# EAGLE library part MM74HC688N (library Fairchild_By_element14_Batch_1)
8-Bit Magnitude Comparator
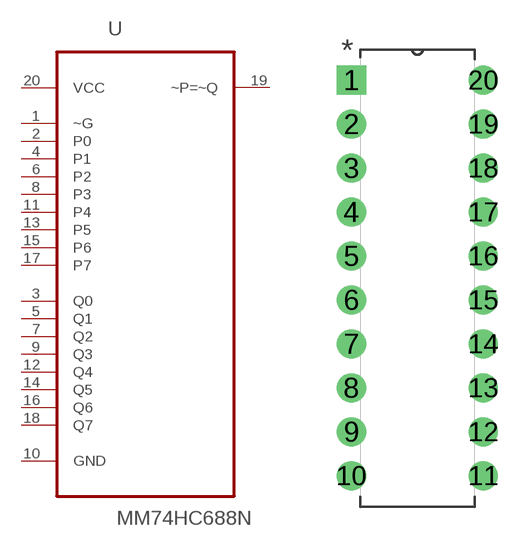
[diagram p304: symbol with the pads of DIP254P762X508-20; footprint DIP254P762X508-20]

Designator prefix U

## MM74HC688N (MPN: MM74HC688N; OC_FARNELL: 1013943; OC_NEWARK: -; PACKAGE: PDIP-20; SUPPLIER: FAIRCHILD SEMICONDUCTOR)  [DIP254P762X508-20]
1  ~G  in
2  P0  in
3  Q0  in
4  P1  in
5  Q1  in
6  P2  in
7  Q2  in
8  P3  in
9  Q3  in
10  GND  pas
11  P4  in
12  Q4  in
13  P5  in
14  Q5  in
15  P6  in
16  Q6  in
17  P7  in
18  Q7  in
19  ~P=~Q  out
20  VCC  pwr

## Footprint DIP254P762X508-20 (pad centres in mm)
drill 1.118 square: 1 -7.62,22.86
drill 1.118: 2 -7.62,20.32; 3 -7.62,17.78; 4 -7.62,15.24; 5 -7.62,12.7; 6 -7.62,10.16; 7 -7.62,7.62; 8 -7.62,5.08; 9 -7.62,2.54; 10 -7.62,0; 11 0,0; 12 0,2.54; 13 0,5.08; 14 0,7.62; 15 0,10.16; 16 0,12.7; 17 0,15.24; 18 0,17.78; 19 0,20.32; 20 0,22.86